# Altium footprint library epcos_lan_module.PcbLib: 1 footprints
Each footprint in its own frame and in the unit in brackets; x right, y up, seen from the top. Pads: shape width x height; smd on the part's side, far side on the other; paste and mask are expansions set on the pad; w line width, h text height; cw(c..) or ccw(c..) is an arc to the next point about the centre after c.
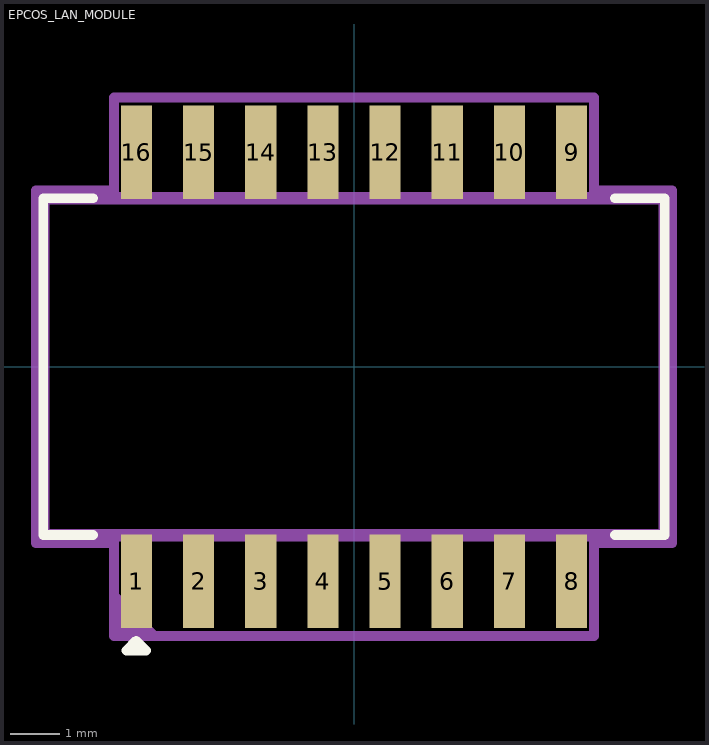
[diagram p0: the footprint, top view; thin cyan lines are the x and y axes]

## EPCOS_LAN_MODULE [mil] "LAN_MODULE_12.7mm_6.9mm"
height 220
pads (16):
  rect 25x75 smd: 1(-175,-172.5) 2(-125,-172.5) 3(-75,-172.5) 4(-25,-172.5) 5(25,-172.5) 6(75,-172.5) 7(125,-172.5) 8(175,-172.5) 9(175,172.5) 10(125,172.5) 11(75,172.5) 12(25,172.5) 13(-25,172.5) 14(-75,172.5) 15(-125,172.5) 16(-175,172.5)
Top Overlay:
  lines w7.87: -210,-135.5 -250,-135.5 -250,135.5 -210,135.5 ; 210,-135.5 250,-135.5 250,135.5 210,135.5 ; -183.07,-228.35 -175.2,-220.47 -167.32,-228.35 -183.07,-228.35
Top 3D Body:
  lines w10: -250,-135.5 250,-135.5 250,135.5 -250,135.5 -250,-135.5
Top Courtyard:
  region: -192.91,-216.54 -192.91,-179.13 -155.51,-216.54
  lines w7.87: -255.91,-141.73 -192.91,-141.73 -192.91,-216.54 192.91,-216.54 192.91,-141.73 255.91,-141.73 255.91,141.73 192.91,141.73 192.91,216.54 -192.91,216.54 -192.91,141.73 -255.91,141.73 -255.91,-141.73
Top Designator:
  text ".Designator" at -53.15,-5.91 h23.62
3D body "User Library-b78476a8247a003.step": height 220.47, standoff 0, extent -250,-185.07 250,185